# EAGLE library part MA07-1 (library Mine)
PIN HEADER
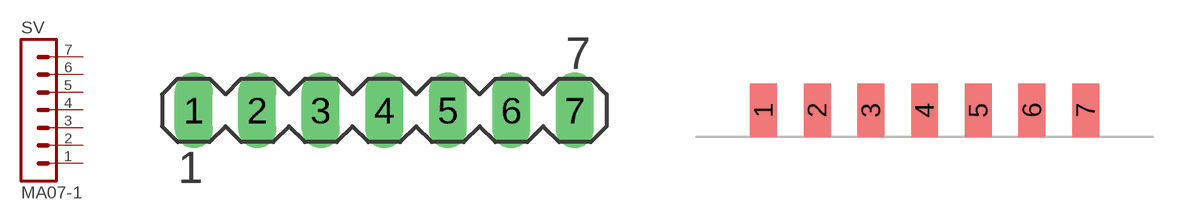
[diagram p76: symbol with the pads of MA07-1; footprints MA07-1, MA07-1-SMD]

Designator prefix SV

## MA07-1 (OC_FARNELL: unknown; OC_NEWARK: unknown)  [MA07-1]
1  1  pas
2  2  pas
3  3  pas
4  4  pas
5  5  pas
6  6  pas
7  7  pas

## MA07-1S  [MA07-1-SMD]
Pads as for MA07-1

## Footprint MA07-1 (pad centres in mm)
PIN HEADER
drill 1.016 long: 1 -7.62,0; 2 -5.08,0; 3 -2.54,0; 4 0,0; 5 2.54,0; 6 5.08,0; 7 7.62,0

## Footprint MA07-1-SMD (pad centres in mm)
smd 1.27 x 2.54: 1 -7.62,0; 2 -5.08,0; 3 -2.54,0; 4 0,0; 5 2.54,0; 6 5.08,0; 7 7.62,0